# Altium footprint library Gan_cuk converter (3).PcbLib: 4 footprints
Each footprint in its own frame and in the unit in brackets; x right, y up, seen from the top. Pads: shape width x height; smd on the part's side, far side on the other; paste and mask are expansions set on the pad; w line width, h text height; cw(c..) or ccw(c..) is an arc to the next point about the centre after c.
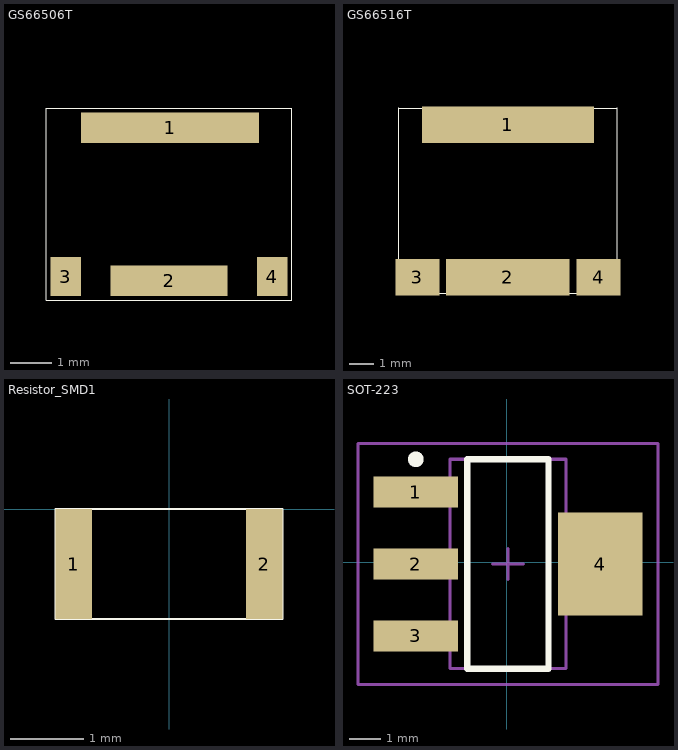
[diagram p0: the footprints below, top view; thin cyan lines are the x and y axes]

## GS66506T [mm] "Top cooled 650V enhancement mode GaN transistor"
height 0.44
pads (4):
  rect 4.3x0.74 smd: 1(-906.6,-733.4)
  rect 2.82x0.74 smd: 2(-906.625,-737.1)
  rect 0.74x0.94 smd: 3(-909.125,-737) 4(-904.125,-737)
Top Overlay:
  lines w0.025: -909.6,-737.575 -903.65,-737.575 -903.65,-732.928 -909.6,-732.928 -909.6,-737.575

## GS66516T [mm] "Top cooled 650V enhancement mode GaN transistor"
height 0.44
pads (4):
  rect 7.04x1.5 smd: 1(-310.813,-241.8)
  rect 5.07x1.5 smd: 2(-310.825,-248.05)
  rect 1.8x1.5 smd: 3(-314.525,-248.05) 4(-307.1,-248.05)
Top Overlay:
  lines w0.025: -315.3,-248.7 -315.3,-241.11 ; -315.29,-241.125 -306.34,-241.125 ; -315.265,-248.7 -306.315,-248.7 ; -306.325,-248.7 -306.325,-241.11

## Resistor_SMD1 [mm] "RES SMD 392 OHM 1% 1/2W 1206"
pads (2):
  rect 0.5x1.5 smd: 1(-1.3,-0.75) 2(1.3,-0.75)
Top Overlay:
  lines w0.025: 0,0 -1.55,0 ; -1.55,0 -1.55,-1.5 1.55,-1.5 1.55,0 -1.55,0

## SOT-223 [mm]
pads (4):
  rect 2.7x1 smd: 1(-2.914,2.248) 2(-2.914,-0.052) 3(-2.914,-2.352)
  rect 2.7x3.3 smd: 4(2.986,-0.052)
Top Overlay:
  circle w0.25: c-2.914,3.298 r0.125
  lines w0.2: -1.264,-3.402 1.336,-3.402 1.336,3.298 -1.264,3.298 -1.264,-3.402
Mechanical 13:
  lines w0.1: -1.814,-3.402 1.886,-3.402 1.886,3.298 -1.814,3.298 -1.814,-3.402
Mechanical 15:
  lines w0.1: -0.464,-0.052 0.536,-0.052 ; 0.036,-0.552 0.036,0.448 ; -4.764,-3.902 4.836,-3.902 4.836,3.798 -4.764,3.798 -4.764,-3.902
3D body: height 1.8, standoff 0, extent -1.814,-3.402 1.886,3.298